# Altium footprint library BalloonLib.PcbLib: 20 footprints (part 2 of 2)
Each footprint in its own frame and in the unit in brackets; x right, y up, seen from the top. Pads: shape width x height; smd on the part's side, far side on the other; paste and mask are expansions set on the pad; w line width, h text height; cw(c..) or ccw(c..) is an arc to the next point about the centre after c.
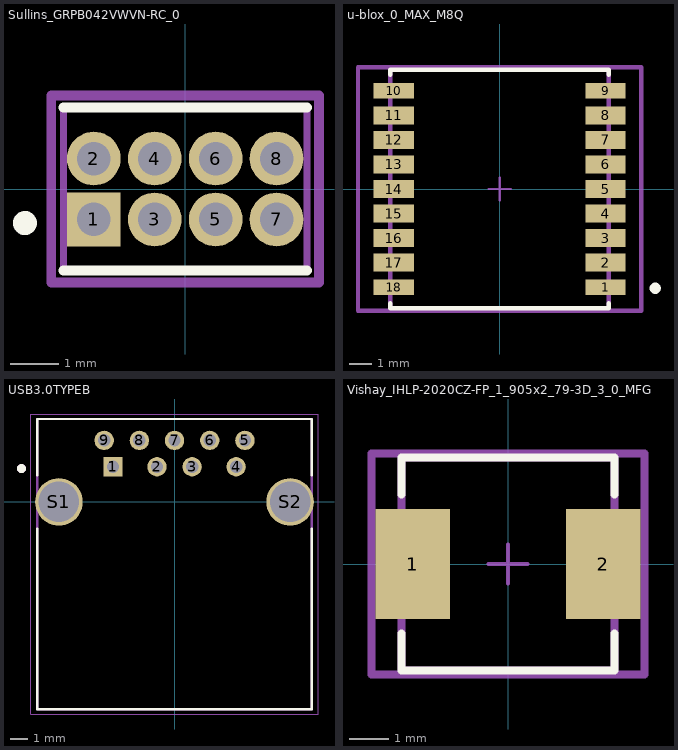
[diagram p1: the footprints below, top view; thin cyan lines are the x and y axes]

## Sullins_GRPB042VWVN-RC_0 [mm]
pads (8):
  rect 1.12x1.12 hole 0.7 paste-1000 mask+0: 1(-1.905,-0.635)
  round 1.12 hole 0.7 paste-1000 mask+0: 2(-1.905,0.635) 3(-0.635,-0.635) 4(-0.635,0.635) 5(0.635,-0.635) 6(0.635,0.635) 7(1.905,-0.635) 8(1.905,0.635)
Top Overlay:
  circle w0.25: c-3.34,-0.71 r0.125
  lines w0.2: -2.54,-1.7 2.54,-1.7 ; -2.54,1.7 2.54,1.7
Mechanical 10:
  lines w0.2: -2.79,-1.95 -2.79,1.95 2.79,1.95 2.79,-1.95 -2.79,-1.95
  text ".Designator" at 0,0 h1
Mechanical 12:
  lines w0.15: -2.54,-1.7 -2.54,1.7 2.54,1.7 2.54,-1.7 -2.54,-1.7
Mechanical 15:
  lines w0.2: -2.79,-1.95 -2.79,1.95 2.79,1.95 2.79,-1.95 -2.79,-1.95
3D body "3dmodel.step": height 0.25, standoff 0, extent -2.79,-1.95 2.79,1.95

## u-blox_0_MAX_M8Q [mm]
pads (18):
  rect 1.8x0.7 smd: 1(4.75,-4.4) 9(4.75,4.4) 10(-4.75,4.4) 18(-4.75,-4.4)
  rect 1.8x0.8 smd: 2(4.75,-3.3) 3(4.75,-2.2) 4(4.75,-1.1) 5(4.75,0) 6(4.75,1.1) 7(4.75,2.2) 8(4.75,3.3) 11(-4.75,3.3) 12(-4.75,2.2) 13(-4.75,1.1) 14(-4.75,0) 15(-4.75,-1.1) 16(-4.75,-2.2) 17(-4.75,-3.3)
Top Overlay:
  circle w0.25: c6.975,-4.45 r0.125
  lines w0.2: -4.9,-5.125 -4.9,-5.35 4.9,-5.35 4.9,-5.125 ; -4.9,5.125 -4.9,5.35 4.9,5.35 4.9,5.125
Mechanical 10:
  lines w0.2: -6.35,-5.45 6.35,-5.45 6.35,5.45 -6.35,5.45 -6.35,-5.45
  text ".Designator" at 0,0 h1
Mechanical 12:
  lines w0.2: -4.9,-5.35 4.9,-5.35 4.9,5.35 -4.9,5.35 -4.9,-5.35
Mechanical 15:
  lines w0.1: -0.5,0 0.5,0 ; 0,-0.5 0,0.5
  lines w0.2: -6.35,-5.45 6.35,-5.45 6.35,5.45 -6.35,5.45 -6.35,-5.45
3D body "UNK_u-blox_MAX-M8Q-0-10_eec.STEP": height 0.25, standoff 0, extent -6.35,-5.45 6.35,5.45

## USB3.0TYPEB [mm]
pads (11):
  rect 1.1x1.1 hole 0.7: 1(-3.5,2)
  round 1.1 hole 0.7: 2(-1,2) 3(1,2) 4(3.5,2) 5(4,3.5) 6(2,3.5) 7(0,3.5) 8(-2,3.5) 9(-4,3.5)
  round 2.7 hole 2.3: S1(-6.57,0) S2(6.57,0)
Top Overlay:
  circle w0.3: c-8.7,1.9 r0.1
  lines w0.127: -7.8,-1.5 -7.8,-11.78 7.8,-11.78 7.8,-1.5 ; -7.8,1.5 -7.8,4.72 7.8,4.72 7.8,1.5
Mechanical 4:
  circle w0.3: c-8.7,1.9 r0.1
  circle w0.3: c-8.7,1.9 r0.1
  lines w0.127: -7.8,-11.78 -7.8,4.72 ; -7.8,-11.78 7.8,-11.78 ; -7.8,-11.78 -7.8,4.72 ; -7.8,-11.78 7.8,-11.78 ; -7.8,4.72 7.8,4.72 ; -7.8,4.72 7.8,4.72 ; 7.8,-11.78 7.8,4.72 ; 7.8,-11.78 7.8,4.72
Mechanical 16:
  lines w0.05: -8.17,-12.05 -8.17,5 8.17,5 8.17,-12.05 -8.17,-12.05

## Vishay_IHLP-2020CZ-FP_1_905x2_79-3D_3_0_MFG [mm]
pads (2):
  rect 1.905x2.79 smd paste+0 mask+0: 1(-2.425,0) 2(2.425,0)
Top Overlay:
  lines w0.2: -2.717,-1.77 -2.717,-2.717 2.717,-2.717 2.717,-1.77 ; -2.717,1.77 -2.717,2.717 2.717,2.717 2.717,1.77
Mechanical 10:
  lines w0.2: -3.478,-2.817 -3.478,2.817 3.478,2.817 3.478,-2.817 -3.478,-2.817
  text ".Designator" at 0,0.188 h1
Mechanical 12:
  lines w0.2: -2.717,-2.717 -2.717,2.717 2.717,2.717 2.717,-2.717 -2.717,-2.717
Mechanical 15:
  lines w0.1: -0.5,0 0.5,0 ; 0,-0.5 0,0.5
  lines w0.2: -3.478,-2.817 -3.478,2.817 3.478,2.817 3.478,-2.817 -3.478,-2.817
3D body "Ind_Vishay_IHLP2020CZER3R3M01_eec.STEP": height 0.25, standoff 0, extent -3.478,-2.817 3.478,2.817